# Altium schematic symbol library Conn_JST_BM08B-SRSS-TB_LF_SN_eec.SchLib: 1 symbol
Pins are listed as number, name and electrical type; pins without a type are passive.

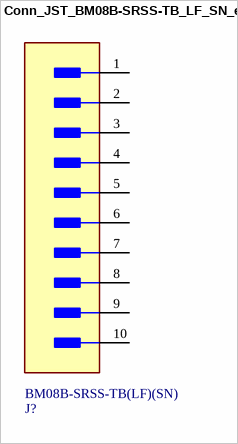
[diagram p0: symbol Conn_JST_BM08B-SRSS-TB_LF_SN_eec]

## Conn_JST_BM08B-SRSS-TB_LF_SN_eec
designator J?  Part Number: BM08B-SRSS-TB(LF)(SN)
CONN 8 Positions Header, Shrouded Connector 0.039" (1.00mm) Surface Mount Tin; Manufacturer: JST; helpURL: https://upverter.com/upn/revision/9fb7c936c6f135a5/; ComponentLink2Description: Datasheet; Temperature: -25°C to +85°C; Package: HDR08; Supplier 2: Mouser; Price: 0.693157270204; Supplier 1: Digi-Key; ComponentLink1URL: https://upverter.com/upn/revision/9fb7c936c6f135a5/; Supplier Part Number 1: 455-1794-1-ND; ComponentLink1Description: Upverter; ComponentLink2URL: http://www.jst-mfg.com/product/pdf/eng/eSH.pdf; RoHS: TRUE; Temperature Range High: +85°C; Digikey Description: CONN 8 Positions Header, Shrouded Connector 0.039" (1.00mm) Surface Mount Tin; Digikey Part Number: 455-1794-1-ND; Lead Free: yes; Temperature Range Low: -25°C
footprint JST_BM08B-SRSS-TB_LF_SN_0
pins: 1, 2, 3, 4, 5, 6, 7, 8, 9 MNT 1, 10 MNT 2